# EAGLE library part MY_CLOCK_LIB_COMPONENTS_4_2X3_PAD_ARRAY (library watch_pcb_lib)
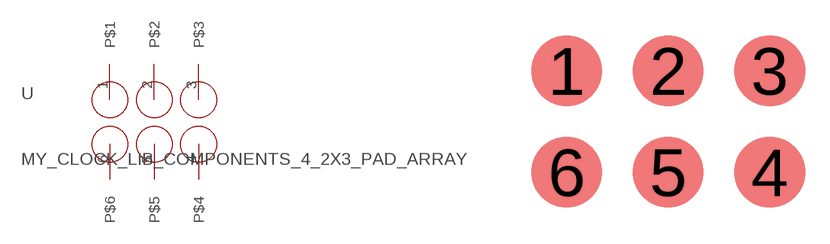
[diagram p1: symbol with the pads of MY_CLOCK_LIB_COMPONENTS_4_2X3_PAD_ARRAY; footprint MY_CLOCK_LIB_COMPONENTS_4_2X3_PAD_ARRAY]

Designator prefix -

## MY_CLOCK_LIB_COMPONENTS_4_2X3_PAD_ARRAY  [MY_CLOCK_LIB_COMPONENTS_4_2X3_PAD_ARRAY]
1  P$1
2  P$2
3  P$3
4  P$4
5  P$5
6  P$6

## Footprint MY_CLOCK_LIB_COMPONENTS_4_2X3_PAD_ARRAY (pad centres in mm)
smd 1.778 x 1.778: 1 0,0; 2 2.54,0; 3 5.08,0; 4 5.08,-2.54; 5 2.54,-2.54; 6 0,-2.54